# Altium footprint library Pots.PcbLib: 1 footprints
Each footprint in its own frame and in the unit in brackets; x right, y up, seen from the top. Pads: shape width x height; smd on the part's side, far side on the other; paste and mask are expansions set on the pad; w line width, h text height; cw(c..) or ccw(c..) is an arc to the next point about the centre after c.
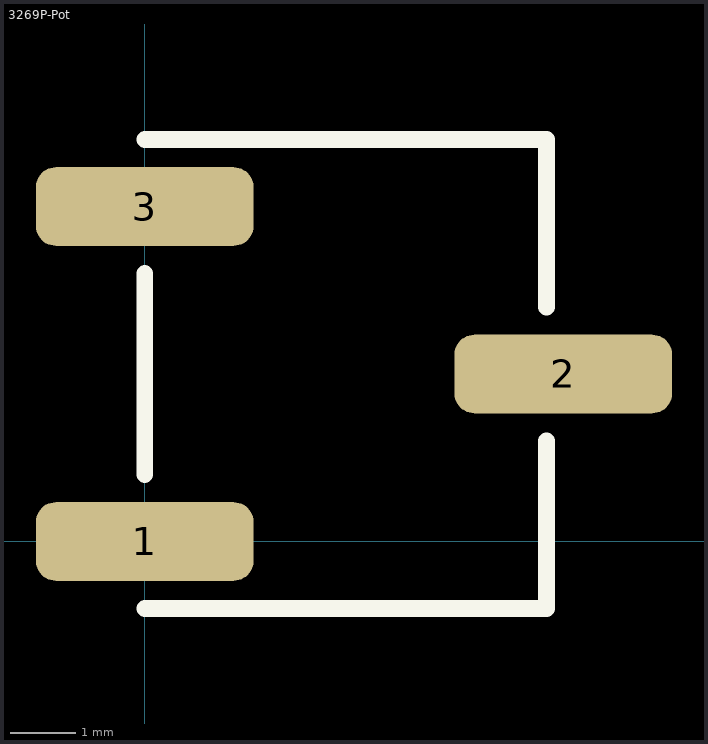
[diagram p0: the footprint, top view; thin cyan lines are the x and y axes]

## 3269P-Pot [mil]
pads (3):
  rrect50% 130x47 smd: 1(0,0) 2(250,100) 3(0,200)
Top Overlay:
  lines w10: 0,-40 240,-40 240,60 ; 0,40 0,160 ; 0,240 240,240 240,140
3D body: height 200, standoff -5, extent -47,-35 307,229